# EAGLE library part QUADSTEPPER (library ajray)
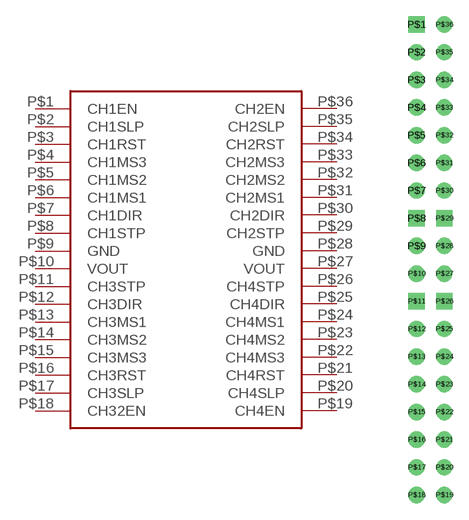
[diagram p0: symbol with the pads of QUADSTEP18X2; footprint QUADSTEP18X2]

Designator prefix -

## QUADSTEPPER  [QUADSTEP18X2]
P$1  CH1EN
P$2  CH1SLP
P$3  CH1RST
P$4  CH1MS3
P$5  CH1MS2
P$6  CH1MS1
P$7  CH1DIR
P$8  CH1STP
P$9  GND
P$10  VOUT
P$11  CH3STP
P$12  CH3DIR
P$13  CH3MS1
P$14  CH3MS2
P$15  CH3MS3
P$16  CH3RST
P$17  CH3SLP
P$18  CH32EN
P$19  CH4EN
P$20  CH4SLP
P$21  CH4RST
P$22  CH4MS3
P$23  CH4MS2
P$24  CH4MS1
P$25  CH4DIR
P$26  CH4STP
P$27  VOUT
P$28  GND
P$29  CH2STP
P$30  CH2DIR
P$31  CH2MS1
P$32  CH2MS2
P$33  CH2MS3
P$34  CH2RST
P$35  CH2SLP
P$36  CH2EN

## Footprint QUADSTEP18X2 (pad centres in mm)
drill 1 square: P$1 0,0; P$8 0,-17.78; P$11 0,-25.4; P$26 2.54,-25.4; P$29 2.54,-17.78
drill 1 round: P$2 0,-2.54; P$3 0,-5.08; P$4 0,-7.62; P$5 0,-10.16; P$6 0,-12.7; P$7 0,-15.24; P$9 0,-20.32; P$10 0,-22.86; P$12 0,-27.94; P$13 0,-30.48; P$14 0,-33.02; P$15 0,-35.56; P$16 0,-38.1; P$17 0,-40.64; P$18 0,-43.18; P$19 2.54,-43.18; P$20 2.54,-40.64; P$21 2.54,-38.1; P$22 2.54,-35.56; P$23 2.54,-33.02; P$24 2.54,-30.48; P$25 2.54,-27.94; P$27 2.54,-22.86; P$28 2.54,-20.32; P$30 2.54,-15.24; P$31 2.54,-12.7; P$32 2.54,-10.16; P$33 2.54,-7.62; P$34 2.54,-5.08; P$35 2.54,-2.54; P$36 2.54,0